# Altium schematic symbol library TS3A24157RSER.SchLib: 1 symbol
Pins are listed as number, name and electrical type; pins without a type are passive.

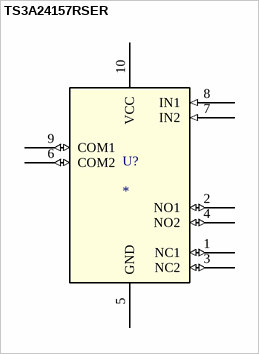
[diagram p0: symbol TS3A24157RSER]

## TS3A24157RSER
designator U?
No Description Available; Mfr_Name: Texas Instruments; RefDes: RefDes; Type: Type
footprint RSE10
pins: 1 NC1 (io), 2 NO1 (io), 3 NC2 (io), 4 NO2 (io), 5 GND (power), 6 COM2 (io), 7 IN2 (in), 8 IN1 (in), 9 COM1 (io), 10 VCC (power)